# Altium footprint library 2021-07-18_11-49-46.PcbLib: 3 footprints
Each footprint in its own frame and in the unit in brackets; x right, y up, seen from the top. Pads: shape width x height; smd on the part's side, far side on the other; paste and mask are expansions set on the pad; w line width, h text height; cw(c..) or ccw(c..) is an arc to the next point about the centre after c.
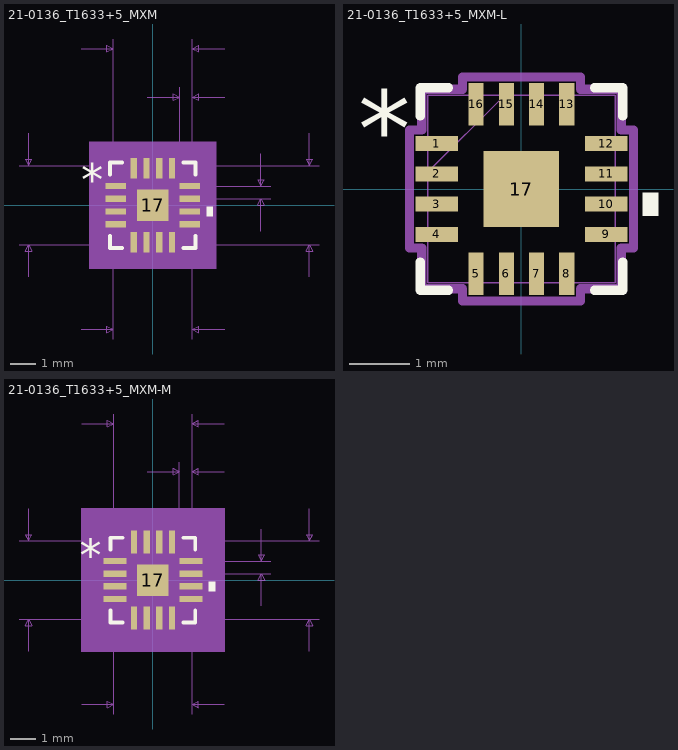
[diagram p0: the footprints below, top view; thin cyan lines are the x and y axes]

## 21-0136_T1633+5_MXM [mm]
pads (17):
  rect 0.805x0.249 smd paste+0 mask+0: 1(-1.452,0.75) 2(-1.452,0.25) 3(-1.452,-0.25) 4(-1.452,-0.75) 9(1.452,-0.75) 10(1.452,-0.25) 11(1.452,0.25) 12(1.452,0.75)
  rect 0.249x0.805 smd paste+0 mask+0: 5(-0.75,-1.452) 6(-0.25,-1.452) 7(0.25,-1.452) 8(0.75,-1.452) 13(0.75,1.452) 14(0.25,1.452) 15(-0.25,1.452) 16(-0.75,1.452)
  rect 1.25x1.25 smd paste+0 mask+0: 17(0,0)
Top Overlay:
  region: 2.108,-0.059 2.362,-0.059 2.362,-0.44 2.108,-0.44
  lines w0.152: -1.676,-1.207 -1.676,-1.676 -1.207,-1.676 ; -1.676,1.207 -1.676,1.676 -1.207,1.676 ; 1.207,-1.676 1.676,-1.676 1.676,-1.207 ; 1.207,1.676 1.676,1.676 1.676,1.207
  text "*" at -2.807,0.365 h1.27
Mechanical 5:
  region: 2.489,-2.489 -2.489,-2.489 -2.489,2.489 2.489,2.489
Mechanical 7:
  lines w0.025: -5.258,-1.549 1.549,-1.549 ; -5.258,1.549 1.549,1.549 1.549,-5.258 ; -4.877,-2.819 -4.877,-1.549 ; -4.877,2.819 -4.877,1.549 ; -2.819,-4.877 -1.549,-4.877 ; -2.819,6.147 -1.549,6.147 ; -1.549,-5.258 -1.549,1.549 ; -1.549,0.75 -1.549,6.528 ; -0.221,4.242 1.049,4.242 ; 0.75,-1.549 6.528,-1.549 ; 0.75,1.549 6.528,1.549 ; 1.049,0.75 1.049,4.623 ; 1.452,0.25 4.623,0.25 ; 1.452,0.75 4.623,0.75 ; 1.549,4.623 1.549,0.75 1.549,6.528 ; 2.819,-4.877 1.549,-4.877 ; 2.819,4.242 1.549,4.242 ; 2.819,6.147 1.549,6.147 ; 4.242,-1.02 4.242,0.25 ; 4.242,2.02 4.242,0.75 ; 6.147,-2.819 6.147,-1.549 ; 6.147,2.819 6.147,1.549 ; -4.877,-1.549 -5.004,-1.803 -4.75,-1.803 -4.877,-1.549 ; -4.877,1.549 -5.004,1.803 -4.75,1.803 -4.877,1.549 ; -1.549,-4.877 -1.803,-4.75 -1.803,-5.004 -1.549,-4.877 ; -1.549,6.147 -1.803,6.274 -1.803,6.02 -1.549,6.147 ; 1.049,4.242 0.795,4.369 0.795,4.115 1.049,4.242 ; 1.549,-4.877 1.803,-4.75 1.803,-5.004 1.549,-4.877 ; 1.549,4.242 1.803,4.369 1.803,4.115 1.549,4.242 ; 1.549,6.147 1.803,6.274 1.803,6.02 1.549,6.147 ; 4.242,0.25 4.115,-0.004 4.369,-0.004 4.242,0.25 ; 4.242,0.75 4.115,1.004 4.369,1.004 4.242,0.75 ; 6.147,-1.549 6.02,-1.803 6.274,-1.803 6.147,-1.549 ; 6.147,1.549 6.02,1.803 6.274,1.803 6.147,1.549
  text "Default Padstyle: RX9p81Y31p69D0T" at -10.477,-9.728 h1.27
  text "Heat Tab Padstyle: RX49p21Y49p21D0T" at -11.112,-11.252 h1.27
  text "Alt 1 Padstyle: OX60Y90D30P" at -8.572,-14.3 h1.27
  text "Alt 2 Padstyle: OX90Y60D30P" at -8.572,-15.824 h1.27
  text "0.02in/0.5mm" at 4.75,0.182 h0.64
  text "0.02in/0.5mm" at -0.606,4.75 h0.64
  text "0.122in/3.099mm" at -2.381,6.655 h0.64
  text "0.122in/3.099mm" at 6.655,-0.318 h0.64
  text "0.122in/3.099mm" at -10.147,-0.318 h0.64
  text "0.122in/3.099mm" at -2.381,-6.02 h0.64
Mechanical 13:
  lines w0.025: -1.549,0.279 -0.279,1.549 ; -1.549,-1.549 1.549,-1.549 1.549,1.549 -1.549,1.549 -1.549,-1.549 ; -1.549,-0.9 -1.549,-0.6 -1.549,-0.9 ; -1.549,-0.4 -1.549,-0.1 -1.549,-0.4 ; -1.549,0.1 -1.549,0.4 -1.549,0.1 ; -1.549,0.6 -1.549,0.9 -1.549,0.6 ; -0.9,-1.549 -0.6,-1.549 -0.9,-1.549 ; -0.9,1.549 -0.6,1.549 -0.9,1.549 ; -0.4,-1.549 -0.1,-1.549 -0.4,-1.549 ; -0.4,1.549 -0.1,1.549 -0.4,1.549 ; 0.1,-1.549 0.4,-1.549 0.1,-1.549 ; 0.1,1.549 0.4,1.549 0.1,1.549 ; 0.6,-1.549 0.9,-1.549 0.6,-1.549 ; 0.6,1.549 0.9,1.549 0.6,1.549 ; 1.549,-0.9 1.549,-0.6 1.549,-0.9 ; 1.549,-0.4 1.549,-0.1 1.549,-0.4 ; 1.549,0.1 1.549,0.4 1.549,0.1 ; 1.549,0.6 1.549,0.9 1.549,0.6
  text "*" at -1.367,0.365 h1.27
Mechanical 15:
  region: -1.129,-1.803 -1.803,-1.803 -1.803,-1.129 -2.108,-1.129 -2.108,1.129 -1.803,1.129 -1.803,1.803 -1.129,1.803 -1.129,2.108 1.129,2.108 1.129,1.803 1.803,1.803 1.803,1.129 2.108,1.129 2.108,-1.129 1.803,-1.129 1.803,-1.803 1.129,-1.803 1.129,-2.108 -1.129,-2.108
  lines w0.152: -2.108,-1.129 -1.803,-1.129 -1.803,-1.803 -1.129,-1.803 -1.129,-2.108 1.129,-2.108 1.129,-1.803 1.803,-1.803 1.803,-1.129 2.108,-1.129 2.108,1.129 1.803,1.129 1.803,1.803 1.129,1.803 1.129,2.108 -1.129,2.108 -1.129,1.803 -1.803,1.803 -1.803,1.129 -2.108,1.129 -2.108,-1.129
3D body: height 0.25, standoff 0, extent 0,0 0.254,0.254

## 21-0136_T1633+5_MXM-L [mm]
pads (17):
  rect 0.703x0.249 smd paste+0 mask+0: 1(-1.401,0.75) 2(-1.401,0.25) 3(-1.401,-0.25) 4(-1.401,-0.75) 9(1.401,-0.75) 10(1.401,-0.25) 11(1.401,0.25) 12(1.401,0.75)
  rect 0.249x0.703 smd paste+0 mask+0: 5(-0.75,-1.401) 6(-0.25,-1.401) 7(0.25,-1.401) 8(0.75,-1.401) 13(0.75,1.401) 14(0.25,1.401) 15(-0.25,1.401) 16(-0.75,1.401)
  rect 1.25x1.25 smd paste+0 mask+0: 17(0,0)
Top Overlay:
  region: 2.007,-0.059 2.261,-0.059 2.261,-0.44 2.007,-0.44
  lines w0.152: -1.676,-1.207 -1.676,-1.676 -1.207,-1.676 ; -1.676,1.207 -1.676,1.676 -1.207,1.676 ; 1.207,-1.676 1.676,-1.676 1.676,-1.207 ; 1.207,1.676 1.676,1.676 1.676,1.207
  text "*" at -2.705,0.365 h1.27
Mechanical 13:
  lines w0.025: -1.549,0.279 -0.279,1.549 ; -1.549,-1.549 -1.549,1.549 1.549,1.549 1.549,-1.549 -1.549,-1.549 ; -1.549,-0.9 -1.549,-0.6 -1.549,-0.9 ; -1.549,-0.4 -1.549,-0.1 -1.549,-0.4 ; -1.549,0.1 -1.549,0.4 -1.549,0.1 ; -1.549,0.6 -1.549,0.9 -1.549,0.6 ; -0.9,-1.549 -0.6,-1.549 -0.9,-1.549 ; -0.9,1.549 -0.6,1.549 -0.9,1.549 ; -0.4,-1.549 -0.1,-1.549 -0.4,-1.549 ; -0.4,1.549 -0.1,1.549 -0.4,1.549 ; 0.1,-1.549 0.4,-1.549 0.1,-1.549 ; 0.1,1.549 0.4,1.549 0.1,1.549 ; 0.6,-1.549 0.9,-1.549 0.6,-1.549 ; 0.6,1.549 0.9,1.549 0.6,1.549 ; 1.549,-0.9 1.549,-0.6 1.549,-0.9 ; 1.549,-0.4 1.549,-0.1 1.549,-0.4 ; 1.549,0.1 1.549,0.4 1.549,0.1 ; 1.549,0.6 1.549,0.9 1.549,0.6
  text "*" at -1.367,0.365 h1.27
Mechanical 15:
  lines w0.152: -1.854,-0.976 -1.651,-0.976 -1.651,-1.651 -0.976,-1.651 -0.976,-1.854 0.976,-1.854 0.976,-1.651 1.651,-1.651 1.651,-0.976 1.854,-0.976 1.854,0.976 1.651,0.976 1.651,1.651 0.976,1.651 0.976,1.854 -0.976,1.854 -0.976,1.651 -1.651,1.651 -1.651,0.976 -1.854,0.976 -1.854,-0.976
3D body "21-0136_T1633+5_MXM.step": height 0.81, standoff 0, extent -1.549,-1.549 1.549,1.549
3D body: height 0.25, standoff 0, extent 0,0 0.254,0.254

## 21-0136_T1633+5_MXM-M [mm]
pads (17):
  rect 0.906x0.249 smd paste+0 mask+0: 1(-1.503,0.75) 2(-1.503,0.25) 3(-1.503,-0.25) 4(-1.503,-0.75) 9(1.503,-0.75) 10(1.503,-0.25) 11(1.503,0.25) 12(1.503,0.75)
  rect 0.249x0.906 smd paste+0 mask+0: 5(-0.75,-1.503) 6(-0.25,-1.503) 7(0.25,-1.503) 8(0.75,-1.503) 13(0.75,1.503) 14(0.25,1.503) 15(-0.25,1.503) 16(-0.75,1.503)
  rect 1.25x1.25 smd paste+0 mask+0: 17(0,0)
Top Overlay:
  region: 2.21,-0.059 2.464,-0.059 2.464,-0.44 2.21,-0.44
  lines w0.152: -1.676,-1.207 -1.676,-1.676 -1.207,-1.676 ; -1.676,1.207 -1.676,1.676 -1.207,1.676 ; 1.207,-1.676 1.676,-1.676 1.676,-1.207 ; 1.207,1.676 1.676,1.676 1.676,1.207
  text "*" at -2.908,0.365 h1.27
Mechanical 5:
  region: 2.845,-2.845 -2.845,-2.845 -2.845,2.845 2.845,2.845
Mechanical 7:
  lines w0.025: -5.309,-1.549 1.549,-1.549 ; -5.309,1.549 1.549,1.549 1.549,-5.309 ; -4.928,-2.819 -4.928,-1.549 ; -4.928,2.819 -4.928,1.549 ; -2.819,-4.928 -1.549,-4.928 ; -2.819,6.198 -1.549,6.198 ; -1.549,-5.309 -1.549,1.549 ; -1.549,0.75 -1.549,6.579 ; -0.221,4.293 1.049,4.293 ; 0.75,-1.549 6.579,-1.549 ; 0.75,1.549 6.579,1.549 ; 1.049,0.75 1.049,4.674 ; 1.503,0.25 4.674,0.25 ; 1.503,0.75 4.674,0.75 ; 1.549,4.674 1.549,0.75 1.549,6.579 ; 2.819,-4.928 1.549,-4.928 ; 2.819,4.293 1.549,4.293 ; 2.819,6.198 1.549,6.198 ; 4.293,-1.02 4.293,0.25 ; 4.293,2.02 4.293,0.75 ; 6.198,-2.819 6.198,-1.549 ; 6.198,2.819 6.198,1.549 ; -4.928,-1.549 -5.055,-1.803 -4.801,-1.803 -4.928,-1.549 ; -4.928,1.549 -5.055,1.803 -4.801,1.803 -4.928,1.549 ; -1.549,-4.928 -1.803,-4.801 -1.803,-5.055 -1.549,-4.928 ; -1.549,6.198 -1.803,6.325 -1.803,6.071 -1.549,6.198 ; 1.049,4.293 0.795,4.42 0.795,4.166 1.049,4.293 ; 1.549,-4.928 1.803,-4.801 1.803,-5.055 1.549,-4.928 ; 1.549,4.293 1.803,4.42 1.803,4.166 1.549,4.293 ; 1.549,6.198 1.803,6.325 1.803,6.071 1.549,6.198 ; 4.293,0.25 4.166,-0.004 4.42,-0.004 4.293,0.25 ; 4.293,0.75 4.166,1.004 4.42,1.004 4.293,0.75 ; 6.198,-1.549 6.071,-1.803 6.325,-1.803 6.198,-1.549 ; 6.198,1.549 6.071,1.803 6.325,1.803 6.198,1.549
  text "Default Padstyle: RX9p81Y35p69D0T" at -10.477,-9.83 h1.27
  text "Heat Tab Padstyle: RX49p21Y49p21D0T" at -11.112,-11.354 h1.27
  text "Alt 1 Padstyle: OX60Y90D30P" at -8.572,-14.402 h1.27
  text "Alt 2 Padstyle: OX90Y60D30P" at -8.572,-15.926 h1.27
  text "0.02in/0.5mm" at 4.801,0.182 h0.64
  text "0.02in/0.5mm" at -0.606,4.801 h0.64
  text "0.122in/3.099mm" at -2.381,6.706 h0.64
  text "0.122in/3.099mm" at 6.706,-0.318 h0.64
  text "0.122in/3.099mm" at -10.198,-0.318 h0.64
  text "0.122in/3.099mm" at -2.381,-6.071 h0.64
Mechanical 13:
  lines w0.025: -1.549,0.279 -0.279,1.549 ; -1.549,-1.549 1.549,-1.549 1.549,1.549 -1.549,1.549 -1.549,-1.549 ; -1.549,-0.9 -1.549,-0.6 -1.549,-0.9 ; -1.549,-0.4 -1.549,-0.1 -1.549,-0.4 ; -1.549,0.1 -1.549,0.4 -1.549,0.1 ; -1.549,0.6 -1.549,0.9 -1.549,0.6 ; -0.9,-1.549 -0.6,-1.549 -0.9,-1.549 ; -0.9,1.549 -0.6,1.549 -0.9,1.549 ; -0.4,-1.549 -0.1,-1.549 -0.4,-1.549 ; -0.4,1.549 -0.1,1.549 -0.4,1.549 ; 0.1,-1.549 0.4,-1.549 0.1,-1.549 ; 0.1,1.549 0.4,1.549 0.1,1.549 ; 0.6,-1.549 0.9,-1.549 0.6,-1.549 ; 0.6,1.549 0.9,1.549 0.6,1.549 ; 1.549,-0.9 1.549,-0.6 1.549,-0.9 ; 1.549,-0.4 1.549,-0.1 1.549,-0.4 ; 1.549,0.1 1.549,0.4 1.549,0.1 ; 1.549,0.6 1.549,0.9 1.549,0.6
  text "*" at -1.367,0.365 h1.27
Mechanical 15:
  region: -1.383,-2.057 -2.057,-2.057 -2.057,-1.383 -2.464,-1.383 -2.464,1.383 -2.057,1.383 -2.057,2.057 -1.383,2.057 -1.383,2.464 1.383,2.464 1.383,2.057 2.057,2.057 2.057,1.383 2.464,1.383 2.464,-1.383 2.057,-1.383 2.057,-2.057 1.383,-2.057 1.383,-2.464 -1.383,-2.464
  lines w0.152: -2.464,-1.383 -2.057,-1.383 -2.057,-2.057 -1.383,-2.057 -1.383,-2.464 1.383,-2.464 1.383,-2.057 2.057,-2.057 2.057,-1.383 2.464,-1.383 2.464,1.383 2.057,1.383 2.057,2.057 1.383,2.057 1.383,2.464 -1.383,2.464 -1.383,2.057 -2.057,2.057 -2.057,1.383 -2.464,1.383 -2.464,-1.383
3D body: height 0.25, standoff 0, extent 0,0 0.254,0.254